# EAGLE library part 74*86 (library U-7400)
Quad 2-input EXCLUSIV-OR (XOR) gate
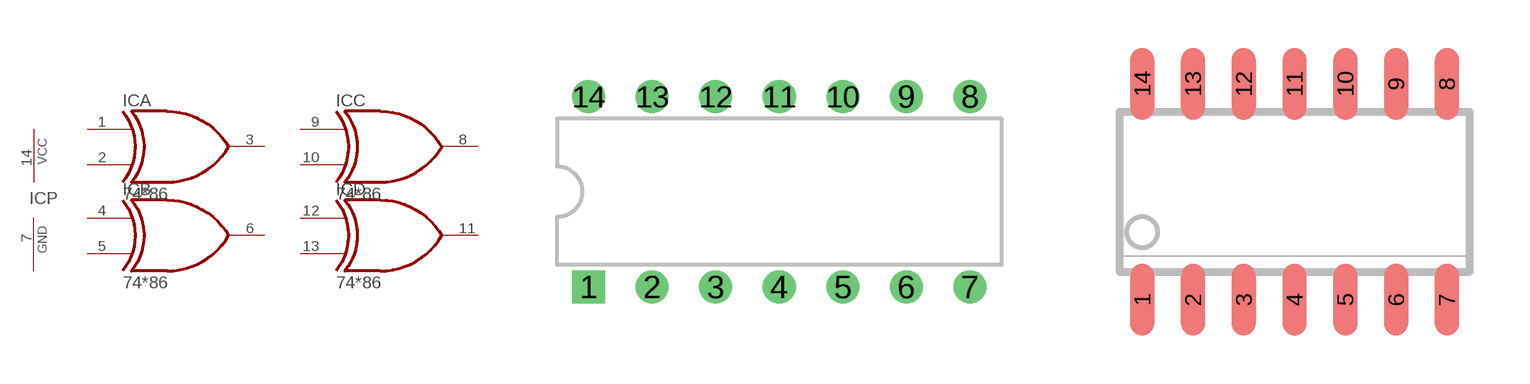
[diagram p184: symbol with the pads of 14DIP; footprints 14DIP, 14SOIC]

Designator prefix IC; gates A=7486 B=7486 C=7486 D=7486 P=PWRN

## 7486N, 74LS86N, 74S86N  [14DIP]
1  A:I0  in
2  A:I1  in
3  A:O  out
4  B:I0  in
5  B:I1  in
6  B:O  out
7  P:GND  pwr
8  C:O  out
9  C:I0  in
10  C:I1  in
11  D:O  out
12  D:I0  in
13  D:I1  in
14  P:VCC  sup

## 74LS86D, 74S86D  [14SOIC]
Pads as for 14DIP

## 74LS86FK, 74S86FK  [LCC20]
2  A:I0  in
3  A:I1  in
4  A:O  out
6  B:I0  in
8  B:I1  in
9  B:O  out
10  P:GND  pwr
12  C:O  out
13  C:I0  in
14  C:I1  in
16  D:O  out
18  D:I0  in
19  D:I1  in
20  P:VCC  sup

## Footprint 14DIP (pad centres in mm)
14POS Dual In-line Package
drill 0.813 square: 1 -7.62,-3.81
drill 0.813: 2 -5.08,-3.81; 3 -2.54,-3.81; 4 0,-3.81; 5 2.54,-3.81; 6 5.08,-3.81; 7 7.62,-3.81; 8 7.62,3.81; 9 5.08,3.81; 10 2.54,3.81; 11 0,3.81; 12 -2.54,3.81; 13 -5.08,3.81; 14 -7.62,3.81

## Footprint 14SOIC (pad centres in mm)
14POS SMALL OUTLINE (14SO[IC]) pitch 1.27 pad .6mm X1.8mm body-Center to pad-Center 2.7mm referance TI's SOIC package, but pads are little larger and rounded
smd 0.6 x 1.8: 1 -3.81,-2.7; 2 -2.54,-2.7; 3 -1.27,-2.7; 4 0,-2.7; 5 1.27,-2.7; 6 2.54,-2.7; 7 3.81,-2.7; 8 3.81,2.7; 9 2.54,2.7; 10 1.27,2.7; 11 0,2.7; 12 -1.27,2.7; 13 -2.54,2.7; 14 -3.81,2.7

## Footprint LCC20 (pad centres in mm)
Leadless Chip Carrier Ceramic Package
smd 0.8 x 3.4: 1 0,3.8
smd 0.8 x 2: 2 -1.27,4.5; 3 -2.54,4.5; 9 -2.54,-4.5; 10 -1.27,-4.5; 11 0,-4.5; 12 1.27,-4.5; 13 2.54,-4.5; 19 2.54,4.5; 20 1.27,4.5
smd 2 x 0.8: 4 -4.5,2.54; 5 -4.5,1.27; 6 -4.5,0; 7 -4.5,-1.27; 8 -4.5,-2.54; 14 4.5,-2.54; 15 4.5,-1.27; 16 4.5,0; 17 4.5,1.27; 18 4.5,2.54